# EAGLE library part K20 (library ic-mcu)
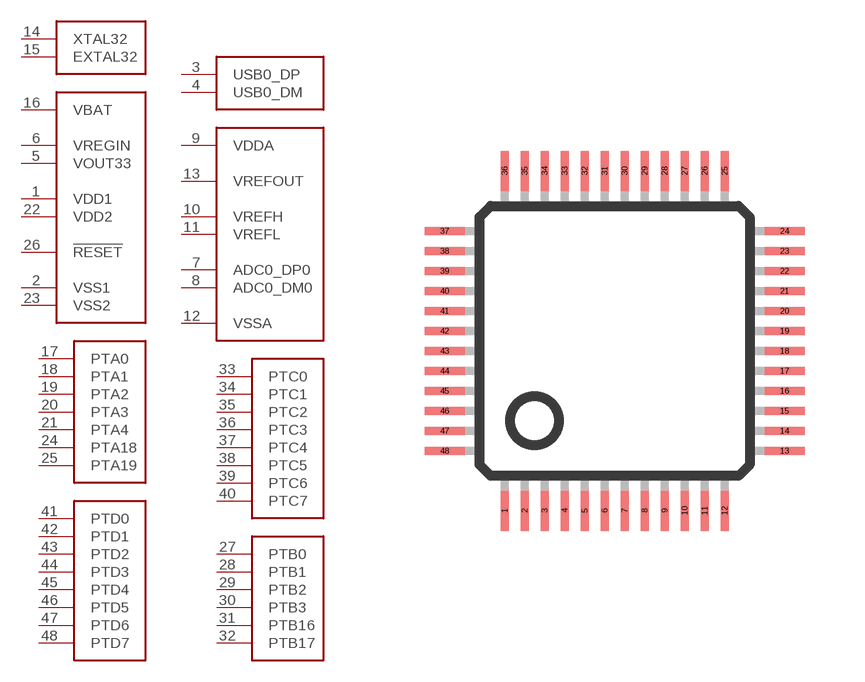
[diagram p2: symbol with the pads of LQFP48; footprint LQFP48]

Designator prefix IC; gates G$1=K20AN G$2=K20PTA G$3=K20PTB G$4=K20PTC G$5=K20PTD G$6=K20PWR G$7=K20USB G$8=K20XTAL

## K20  [LQFP48]
1  G$6:VDD1  pas
2  G$6:VSS1  pas
3  G$7:USB0_DP  pas
4  G$7:USB0_DM  pas
5  G$6:VOUT33  pas
6  G$6:VREGIN  pas
7  G$1:ADC0_DP0  pas
8  G$1:ADC0_DM0  pas
9  G$1:VDDA  pas
10  G$1:VREFH  pas
11  G$1:VREFL  pas
12  G$1:VSSA  pas
13  G$1:VREFOUT  pas
14  G$8:XTAL32  pas
15  G$8:EXTAL32  pas
16  G$6:VBAT  pas
17  G$2:PTA0  pas
18  G$2:PTA1  pas
19  G$2:PTA2  pas
20  G$2:PTA3  pas
21  G$2:PTA4  pas
22  G$6:VDD2  pas
23  G$6:VSS2  pas
24  G$2:PTA18  pas
25  G$2:PTA19  pas
26  G$6:!RESET!  pas
27  G$3:PTB0  pas
28  G$3:PTB1  pas
29  G$3:PTB2  pas
30  G$3:PTB3  pas
31  G$3:PTB16  pas
32  G$3:PTB17  pas
33  G$4:PTC0  pas
34  G$4:PTC1  pas
35  G$4:PTC2  pas
36  G$4:PTC3  pas
37  G$4:PTC4  pas
38  G$4:PTC5  pas
39  G$4:PTC6  pas
40  G$4:PTC7  pas
41  G$5:PTD0  pas
42  G$5:PTD1  pas
43  G$5:PTD2  pas
44  G$5:PTD3  pas
45  G$5:PTD4  pas
46  G$5:PTD5  pas
47  G$5:PTD6  pas
48  G$5:PTD7  pas

## Footprint LQFP48 (pad centres in mm)
48-pin plastic LQFP (FPT-48P-M26) www.fma.fujitsu.com/pdf/e713717.pdf
smd 0.2 x 1: 1 -2.75,-4.25; 2 -2.25,-4.25; 3 -1.75,-4.25; 4 -1.25,-4.25; 5 -0.75,-4.25; 6 -0.25,-4.25; 7 0.25,-4.25; 8 0.75,-4.25; 9 1.25,-4.25; 10 1.75,-4.25; 11 2.25,-4.25; 12 2.75,-4.25; 25 2.75,4.25; 26 2.25,4.25; 27 1.75,4.25; 28 1.25,4.25; 29 0.75,4.25; 30 0.25,4.25; 31 -0.25,4.25; 32 -0.75,4.25; 33 -1.25,4.25; 34 -1.75,4.25; 35 -2.25,4.25; 36 -2.75,4.25
smd 1 x 0.2: 13 4.25,-2.75; 14 4.25,-2.25; 15 4.25,-1.75; 16 4.25,-1.25; 17 4.25,-0.75; 18 4.25,-0.25; 19 4.25,0.25; 20 4.25,0.75; 21 4.25,1.25; 22 4.25,1.75; 23 4.25,2.25; 24 4.25,2.75; 37 -4.25,2.75; 38 -4.25,2.25; 39 -4.25,1.75; 40 -4.25,1.25; 41 -4.25,0.75; 42 -4.25,0.25; 43 -4.25,-0.25; 44 -4.25,-0.75; 45 -4.25,-1.25; 46 -4.25,-1.75; 47 -4.25,-2.25; 48 -4.25,-2.75